# Altium integrated library Wuerth Elektronik SMD High Current Choke.IntLib: 172 symbols (part 2 of 2)
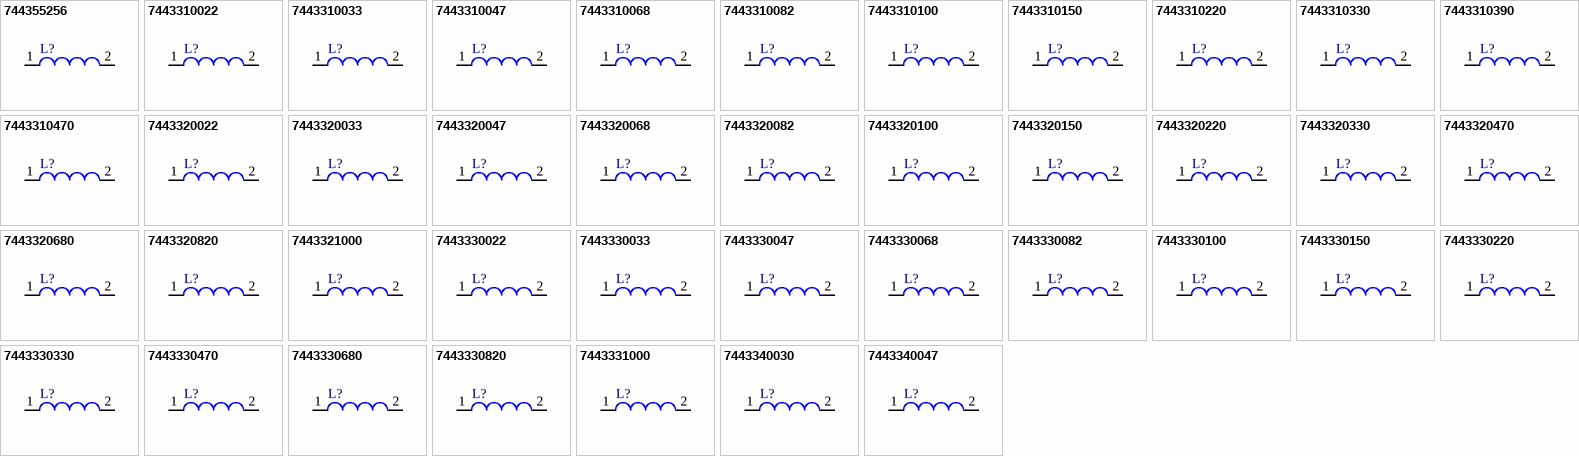
[diagram p5: symbols 744355256 to 7443340047]

## 7443320022
designator L?
SMD High Current Cube Inductor WE-HCC, L=0.22 µH; Inductance: 0.22 µH; DatasheetVersion: ver 2, Nov-2009; PackageVersion: 2009; PackageReference: WE-HCC-1210; PackageDescription: Inductor, 2-Leads, Body 12.1 x 11.4 mm; ComponentLink1Description: Manufacturer URL; ComponentLink1URL: http://www.we-online.com; ComponentLink2Description: Datasheet; ComponentLink2URL: http://www.we-online.de/katalog/media/pdf/7443320022.pdf
footprint WE-HCC-1210 (Inductor, 2-Leads, Body 12.1x11.4x10.0 mm)
pins: 1, 2

## 7443320033
designator L?
SMD High Current Cube Inductor WE-HCC, L=0.33 µH; Inductance: 0.33 µH; DatasheetVersion: ver 2, Nov-2009; PackageVersion: 2009; PackageReference: WE-HCC-1210; PackageDescription: Inductor, 2-Leads, Body 12.1 x 11.4 mm; ComponentLink1Description: Manufacturer URL; ComponentLink1URL: http://www.we-online.com; ComponentLink2Description: Datasheet; ComponentLink2URL: http://www.we-online.de/katalog/media/pdf/7443320033.pdf
footprint WE-HCC-1210 (Inductor, 2-Leads, Body 12.1x11.4x10.0 mm)
pins: 1, 2

## 7443320047
designator L?
SMD High Current Cube Inductor WE-HCC, L=0.47 µH; Inductance: 0.47 µH; DatasheetVersion: ver 2, Nov-2009; PackageVersion: 2009; PackageReference: WE-HCC-1210; PackageDescription: Inductor, 2-Leads, Body 12.1 x 11.4 mm; ComponentLink1Description: Manufacturer URL; ComponentLink1URL: http://www.we-online.com; ComponentLink2Description: Datasheet; ComponentLink2URL: http://www.we-online.de/katalog/media/pdf/7443320047.pdf
footprint WE-HCC-1210 (Inductor, 2-Leads, Body 12.1x11.4x10.0 mm)
pins: 1, 2

## 7443320068
designator L?
SMD High Current Cube Inductor WE-HCC, L=0.68 µH; Inductance: 0.68 µH; DatasheetVersion: ver 2, Nov-2009; PackageVersion: 2009; PackageReference: WE-HCC-1210; PackageDescription: Inductor, 2-Leads, Body 12.1 x 11.4 mm; ComponentLink1Description: Manufacturer URL; ComponentLink1URL: http://www.we-online.com; ComponentLink2Description: Datasheet; ComponentLink2URL: http://www.we-online.de/katalog/media/pdf/7443320068.pdf
footprint WE-HCC-1210 (Inductor, 2-Leads, Body 12.1x11.4x10.0 mm)
pins: 1, 2

## 7443320082
designator L?
SMD High Current Cube Inductor WE-HCC, L=0.82 µH; Inductance: 0.82 µH; DatasheetVersion: ver 2, Nov-2009; PackageVersion: 2009; PackageReference: WE-HCC-1210; PackageDescription: Inductor, 2-Leads, Body 12.1 x 11.4 mm; ComponentLink1Description: Manufacturer URL; ComponentLink1URL: http://www.we-online.com; ComponentLink2Description: Datasheet; ComponentLink2URL: http://www.we-online.de/katalog/media/pdf/7443320082.pdf
footprint WE-HCC-1210 (Inductor, 2-Leads, Body 12.1x11.4x10.0 mm)
pins: 1, 2

## 7443320100
designator L?
SMD High Current Cube Inductor WE-HCC, L=1.00 µH; Inductance: 1.00 µH; DatasheetVersion: ver 2, Nov-2009; PackageVersion: 2009; PackageReference: WE-HCC-1210; PackageDescription: Inductor, 2-Leads, Body 12.1 x 11.4 mm; ComponentLink1Description: Manufacturer URL; ComponentLink1URL: http://www.we-online.com; ComponentLink2Description: Datasheet; ComponentLink2URL: http://www.we-online.de/katalog/media/pdf/7443320100.pdf
footprint WE-HCC-1210 (Inductor, 2-Leads, Body 12.1x11.4x10.0 mm)
pins: 1, 2

## 7443320150
designator L?
SMD High Current Cube Inductor WE-HCC, L=1.50 µH; Inductance: 1.50 µH; DatasheetVersion: ver 2, Nov-2009; PackageVersion: 2009; PackageReference: WE-HCC-1210; PackageDescription: Inductor, 2-Leads, Body 12.1 x 11.4 mm; ComponentLink1Description: Manufacturer URL; ComponentLink1URL: http://www.we-online.com; ComponentLink2Description: Datasheet; ComponentLink2URL: http://www.we-online.de/katalog/media/pdf/7443320150.pdf
footprint WE-HCC-1210 (Inductor, 2-Leads, Body 12.1x11.4x10.0 mm)
pins: 1, 2

## 7443320220
designator L?
SMD High Current Cube Inductor WE-HCC, L=2.20 µH; Inductance: 2.20 µH; DatasheetVersion: ver 2, Nov-2009; PackageVersion: 2009; PackageReference: WE-HCC-1210; PackageDescription: Inductor, 2-Leads, Body 12.1 x 11.4 mm; ComponentLink1Description: Manufacturer URL; ComponentLink1URL: http://www.we-online.com; ComponentLink2Description: Datasheet; ComponentLink2URL: http://www.we-online.de/katalog/media/pdf/7443320220.pdf
footprint WE-HCC-1210 (Inductor, 2-Leads, Body 12.1x11.4x10.0 mm)
pins: 1, 2

## 7443320330
designator L?
SMD High Current Cube Inductor WE-HCC, L=3.30 µH; Inductance: 3.30 µH; DatasheetVersion: ver 2, Nov-2009; PackageVersion: 2009; PackageReference: WE-HCC-1210; PackageDescription: Inductor, 2-Leads, Body 12.1 x 11.4 mm; ComponentLink1Description: Manufacturer URL; ComponentLink1URL: http://www.we-online.com; ComponentLink2Description: Datasheet; ComponentLink2URL: http://www.we-online.de/katalog/media/pdf/7443320330.pdf
footprint WE-HCC-1210 (Inductor, 2-Leads, Body 12.1x11.4x10.0 mm)
pins: 1, 2

## 7443320470
designator L?
SMD High Current Cube Inductor WE-HCC, L=4.70 µH; Inductance: 4.70 µH; DatasheetVersion: ver 2, Nov-2009; PackageVersion: 2009; PackageReference: WE-HCC-1210; PackageDescription: Inductor, 2-Leads, Body 12.1 x 11.4 mm; ComponentLink1Description: Manufacturer URL; ComponentLink1URL: http://www.we-online.com; ComponentLink2Description: Datasheet; ComponentLink2URL: http://www.we-online.de/katalog/media/pdf/7443320470.pdf
footprint WE-HCC-1210 (Inductor, 2-Leads, Body 12.1x11.4x10.0 mm)
pins: 1, 2

## 7443320680
designator L?
SMD High Current Cube Inductor WE-HCC, L=6.80 µH; Inductance: 6.80 µH; DatasheetVersion: ver 2, Nov-2009; PackageVersion: 2009; PackageReference: WE-HCC-1210; PackageDescription: Inductor, 2-Leads, Body 12.1 x 11.4 mm; ComponentLink1Description: Manufacturer URL; ComponentLink1URL: http://www.we-online.com; ComponentLink2Description: Datasheet; ComponentLink2URL: http://www.we-online.de/katalog/media/pdf/7443320680.pdf
footprint WE-HCC-1210 (Inductor, 2-Leads, Body 12.1x11.4x10.0 mm)
pins: 1, 2

## 7443320820
designator L?
SMD High Current Cube Inductor WE-HCC, L=8.20 µH; Inductance: 8.20 µH; DatasheetVersion: ver 2, Nov-2009; PackageVersion: 2009; PackageReference: WE-HCC-1210; PackageDescription: Inductor, 2-Leads, Body 12.1 x 11.4 mm; ComponentLink1Description: Manufacturer URL; ComponentLink1URL: http://www.we-online.com; ComponentLink2Description: Datasheet; ComponentLink2URL: http://www.we-online.de/katalog/media/pdf/7443320820.pdf
footprint WE-HCC-1210 (Inductor, 2-Leads, Body 12.1x11.4x10.0 mm)
pins: 1, 2

## 7443321000
designator L?
SMD High Current Cube Inductor WE-HCC, L=10.0 µH; Inductance: 10.0 µH; DatasheetVersion: ver 2, Nov-2009; PackageVersion: 2009; PackageReference: WE-HCC-1210; PackageDescription: Inductor, 2-Leads, Body 12.1 x 11.4 mm; ComponentLink1Description: Manufacturer URL; ComponentLink1URL: http://www.we-online.com; ComponentLink2Description: Datasheet; ComponentLink2URL: http://www.we-online.de/katalog/media/pdf/7443321000.pdf
footprint WE-HCC-1210 (Inductor, 2-Leads, Body 12.1x11.4x10.0 mm)
pins: 1, 2

## 7443330022
designator L?
SMD High Current Cube Inductor WE-HCC, L=0.22 µH; Inductance: 0.22 µH; DatasheetVersion: ver 2, Nov-2009; PackageVersion: 2009; PackageReference: WE-HCC-1090; PackageDescription: Inductor, 2-Leads, Body 10.9 x 10.0 mm; ComponentLink1Description: Manufacturer URL; ComponentLink1URL: http://www.we-online.com; ComponentLink2Description: Datasheet; ComponentLink2URL: http://www.we-online.de/katalog/media/pdf/7443330022.pdf
footprint WE-HCC-1090 (Inductor, 2-Leads, Body 10.9x10.0x9.7 mm)
pins: 1, 2

## 7443330033
designator L?
SMD High Current Cube Inductor WE-HCC, L=0.33 µH; Inductance: 0.33 µH; DatasheetVersion: ver 2, Nov-2009; PackageVersion: 2009; PackageReference: WE-HCC-1090; PackageDescription: Inductor, 2-Leads, Body 10.9 x 10.0 mm; ComponentLink1Description: Manufacturer URL; ComponentLink1URL: http://www.we-online.com; ComponentLink2Description: Datasheet; ComponentLink2URL: http://www.we-online.de/katalog/media/pdf/7443330033.pdf
footprint WE-HCC-1090 (Inductor, 2-Leads, Body 10.9x10.0x9.7 mm)
pins: 1, 2

## 7443330047
designator L?
SMD High Current Cube Inductor WE-HCC, L=0.47 µH; Inductance: 0.47 µH; DatasheetVersion: ver 2, Nov-2009; PackageVersion: 2009; PackageReference: WE-HCC-1090; PackageDescription: Inductor, 2-Leads, Body 10.9 x 10.0 mm; ComponentLink1Description: Manufacturer URL; ComponentLink1URL: http://www.we-online.com; ComponentLink2Description: Datasheet; ComponentLink2URL: http://www.we-online.de/katalog/media/pdf/7443330047.pdf
footprint WE-HCC-1090 (Inductor, 2-Leads, Body 10.9x10.0x9.7 mm)
pins: 1, 2

## 7443330068
designator L?
SMD High Current Cube Inductor WE-HCC, L=0.68 µH; Inductance: 0.68 µH; DatasheetVersion: ver 2, Nov-2009; PackageVersion: 2009; PackageReference: WE-HCC-1090; PackageDescription: Inductor, 2-Leads, Body 10.9 x 10.0 mm; ComponentLink1Description: Manufacturer URL; ComponentLink1URL: http://www.we-online.com; ComponentLink2Description: Datasheet; ComponentLink2URL: http://www.we-online.de/katalog/media/pdf/7443330068.pdf
footprint WE-HCC-1090 (Inductor, 2-Leads, Body 10.9x10.0x9.7 mm)
pins: 1, 2

## 7443330082
designator L?
SMD High Current Cube Inductor WE-HCC, L=0.82 µH; Inductance: 0.82 µH; DatasheetVersion: ver 2, Nov-2009; PackageVersion: 2009; PackageReference: WE-HCC-1090; PackageDescription: Inductor, 2-Leads, Body 10.9 x 10.0 mm; ComponentLink1Description: Manufacturer URL; ComponentLink1URL: http://www.we-online.com; ComponentLink2Description: Datasheet; ComponentLink2URL: http://www.we-online.de/katalog/media/pdf/7443330082.pdf
footprint WE-HCC-1090 (Inductor, 2-Leads, Body 10.9x10.0x9.7 mm)
pins: 1, 2

## 7443330100
designator L?
SMD High Current Cube Inductor WE-HCC, L=1.00 µH; Inductance: 1.00 µH; DatasheetVersion: ver 2, Nov-2009; PackageVersion: 2009; PackageReference: WE-HCC-1090; PackageDescription: Inductor, 2-Leads, Body 10.9 x 10.0 mm; ComponentLink1Description: Manufacturer URL; ComponentLink1URL: http://www.we-online.com; ComponentLink2Description: Datasheet; ComponentLink2URL: http://www.we-online.de/katalog/media/pdf/7443330100.pdf
footprint WE-HCC-1090 (Inductor, 2-Leads, Body 10.9x10.0x9.7 mm)
pins: 1, 2

## 7443330150
designator L?
SMD High Current Cube Inductor WE-HCC, L=1.50 µH; Inductance: 1.50 µH; DatasheetVersion: ver 2, Nov-2009; PackageVersion: 2009; PackageReference: WE-HCC-1090; PackageDescription: Inductor, 2-Leads, Body 10.9 x 10.0 mm; ComponentLink1Description: Manufacturer URL; ComponentLink1URL: http://www.we-online.com; ComponentLink2Description: Datasheet; ComponentLink2URL: http://www.we-online.de/katalog/media/pdf/7443330150.pdf
footprint WE-HCC-1090 (Inductor, 2-Leads, Body 10.9x10.0x9.7 mm)
pins: 1, 2

## 7443330220
designator L?
SMD High Current Cube Inductor WE-HCC, L=2.20 µH; Inductance: 2.20 µH; DatasheetVersion: ver 2, Nov-2009; PackageVersion: 2009; PackageReference: WE-HCC-1090; PackageDescription: Inductor, 2-Leads, Body 10.9 x 10.0 mm; ComponentLink1Description: Manufacturer URL; ComponentLink1URL: http://www.we-online.com; ComponentLink2Description: Datasheet; ComponentLink2URL: http://www.we-online.de/katalog/media/pdf/7443330220.pdf
footprint WE-HCC-1090 (Inductor, 2-Leads, Body 10.9x10.0x9.7 mm)
pins: 1, 2

## 7443330330
designator L?
SMD High Current Cube Inductor WE-HCC, L=3.30 µH; Inductance: 3.30 µH; DatasheetVersion: ver 2, Nov-2009; PackageVersion: 2009; PackageReference: WE-HCC-1090; PackageDescription: Inductor, 2-Leads, Body 10.9 x 10.0 mm; ComponentLink1Description: Manufacturer URL; ComponentLink1URL: http://www.we-online.com; ComponentLink2Description: Datasheet; ComponentLink2URL: http://www.we-online.de/katalog/media/pdf/7443330330.pdf
footprint WE-HCC-1090 (Inductor, 2-Leads, Body 10.9x10.0x9.7 mm)
pins: 1, 2

## 7443330470
designator L?
SMD High Current Cube Inductor WE-HCC, L=4.70 µH; Inductance: 4.70 µH; DatasheetVersion: ver 2, Nov-2009; PackageVersion: 2009; PackageReference: WE-HCC-1090; PackageDescription: Inductor, 2-Leads, Body 10.9 x 10.0 mm; ComponentLink1Description: Manufacturer URL; ComponentLink1URL: http://www.we-online.com; ComponentLink2Description: Datasheet; ComponentLink2URL: http://www.we-online.de/katalog/media/pdf/7443330470.pdf
footprint WE-HCC-1090 (Inductor, 2-Leads, Body 10.9x10.0x9.7 mm)
pins: 1, 2

## 7443330680
designator L?
SMD High Current Cube Inductor WE-HCC, L=6.80 µH; Inductance: 6.80 µH; DatasheetVersion: ver 2, Nov-2009; PackageVersion: 2009; PackageReference: WE-HCC-1090; PackageDescription: Inductor, 2-Leads, Body 10.9 x 10.0 mm; ComponentLink1Description: Manufacturer URL; ComponentLink1URL: http://www.we-online.com; ComponentLink2Description: Datasheet; ComponentLink2URL: http://www.we-online.de/katalog/media/pdf/7443330680.pdf
footprint WE-HCC-1090 (Inductor, 2-Leads, Body 10.9x10.0x9.7 mm)
pins: 1, 2

## 7443330820
designator L?
SMD High Current Cube Inductor WE-HCC, L=8.20 µH; Inductance: 8.20 µH; DatasheetVersion: ver 2, Nov-2009; PackageVersion: 2009; PackageReference: WE-HCC-1090; PackageDescription: Inductor, 2-Leads, Body 10.9 x 10.0 mm; ComponentLink1Description: Manufacturer URL; ComponentLink1URL: http://www.we-online.com; ComponentLink2Description: Datasheet; ComponentLink2URL: http://www.we-online.de/katalog/media/pdf/7443330820.pdf
footprint WE-HCC-1090 (Inductor, 2-Leads, Body 10.9x10.0x9.7 mm)
pins: 1, 2

## 7443331000
designator L?
SMD High Current Cube Inductor WE-HCC, L=10.0 µH; Inductance: 10.0 µH; DatasheetVersion: ver 2, Nov-2009; PackageVersion: 2009; PackageReference: WE-HCC-1090; PackageDescription: Inductor, 2-Leads, Body 10.9 x 10.0 mm; ComponentLink1Description: Manufacturer URL; ComponentLink1URL: http://www.we-online.com; ComponentLink2Description: Datasheet; ComponentLink2URL: http://www.we-online.de/katalog/media/pdf/7443331000.pdf
footprint WE-HCC-1090 (Inductor, 2-Leads, Body 10.9x10.0x9.7 mm)
pins: 1, 2

## 7443340030
designator L?
SMD High Current Cube Inductor WE-HCC, L=0.30 µH; Inductance: 0.30 µH; DatasheetVersion: ver 2, Nov-2009; PackageVersion: 2009; PackageReference: WE-HCC-8070; PackageDescription: Inductor, 2-Leads, Body 8.4 x 7.9 mm; ComponentLink1Description: Manufacturer URL; ComponentLink1URL: http://www.we-online.com; ComponentLink2Description: Datasheet; ComponentLink2URL: http://www.we-online.de/katalog/media/pdf/7443340030.pdf
footprint WE-HCC-8070 (Inductor, 2-Leads, Body 8.4x7.9x7.5 mm)
pins: 1, 2

## 7443340047
designator L?
SMD High Current Cube Inductor WE-HCC, L=0.47 µH; Inductance: 0.47 µH; DatasheetVersion: ver 2, Nov-2009; PackageVersion: 2009; PackageReference: WE-HCC-8070; PackageDescription: Inductor, 2-Leads, Body 8.4 x 7.9 mm; ComponentLink1Description: Manufacturer URL; ComponentLink1URL: http://www.we-online.com; ComponentLink2Description: Datasheet; ComponentLink2URL: http://www.we-online.de/katalog/media/pdf/7443340047.pdf
footprint WE-HCC-8070 (Inductor, 2-Leads, Body 8.4x7.9x7.5 mm)
pins: 1, 2

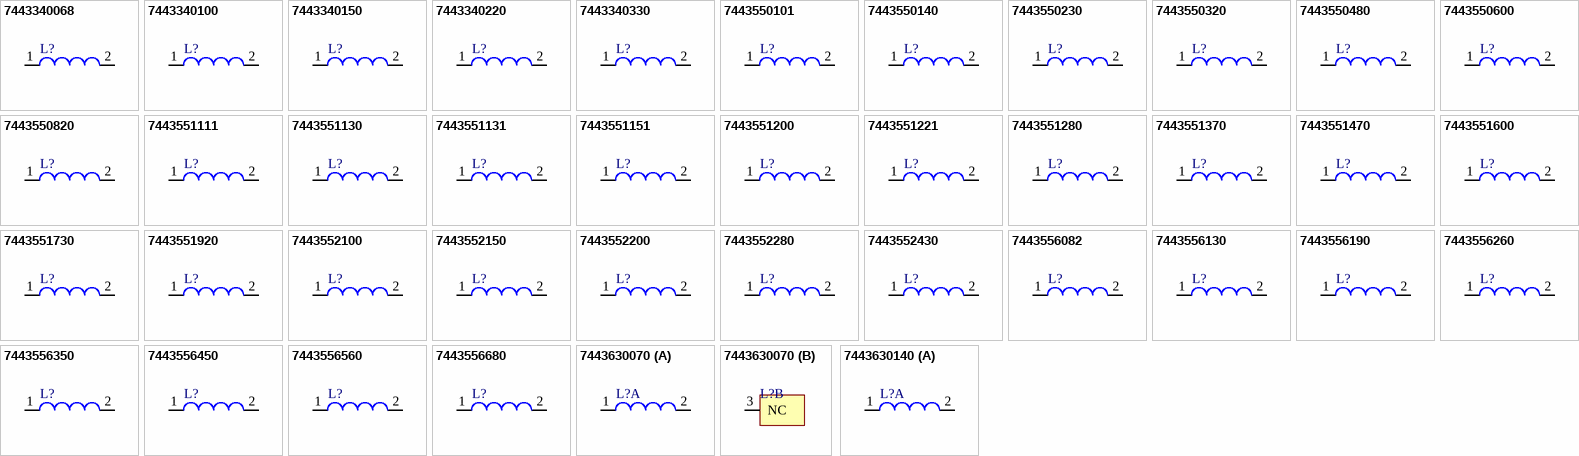
[diagram p3: symbols 7443340068 to 7443630140]

## 7443340068
designator L?
SMD High Current Cube Inductor WE-HCC, L=0.68 µH; Inductance: 0.68 µH; DatasheetVersion: ver 2, Nov-2009; PackageVersion: 2009; PackageReference: WE-HCC-8070; PackageDescription: Inductor, 2-Leads, Body 8.4 x 7.9 mm; ComponentLink1Description: Manufacturer URL; ComponentLink1URL: http://www.we-online.com; ComponentLink2Description: Datasheet; ComponentLink2URL: http://www.we-online.de/katalog/media/pdf/7443340068.pdf
footprint WE-HCC-8070 (Inductor, 2-Leads, Body 8.4x7.9x7.5 mm)
pins: 1, 2

## 7443340100
designator L?
SMD High Current Cube Inductor WE-HCC, L=1.00 µH; Inductance: 1.00 µH; DatasheetVersion: ver 2, Nov-2009; PackageVersion: 2009; PackageReference: WE-HCC-8070; PackageDescription: Inductor, 2-Leads, Body 8.4 x 7.9 mm; ComponentLink1Description: Manufacturer URL; ComponentLink1URL: http://www.we-online.com; ComponentLink2Description: Datasheet; ComponentLink2URL: http://www.we-online.de/katalog/media/pdf/7443340100.pdf
footprint WE-HCC-8070 (Inductor, 2-Leads, Body 8.4x7.9x7.5 mm)
pins: 1, 2

## 7443340150
designator L?
SMD High Current Cube Inductor WE-HCC, L=1.50 µH; Inductance: 1.50 µH; DatasheetVersion: ver 2, Nov-2009; PackageVersion: 2009; PackageReference: WE-HCC-8070; PackageDescription: Inductor, 2-Leads, Body 8.4 x 7.9 mm; ComponentLink1Description: Manufacturer URL; ComponentLink1URL: http://www.we-online.com; ComponentLink2Description: Datasheet; ComponentLink2URL: http://www.we-online.de/katalog/media/pdf/7443340150.pdf
footprint WE-HCC-8070 (Inductor, 2-Leads, Body 8.4x7.9x7.5 mm)
pins: 1, 2

## 7443340220
designator L?
SMD High Current Cube Inductor WE-HCC, L=2.20 µH; Inductance: 2.20 µH; DatasheetVersion: ver 2, Nov-2009; PackageVersion: 2009; PackageReference: WE-HCC-8070; PackageDescription: Inductor, 2-Leads, Body 8.4 x 7.9 mm; ComponentLink1Description: Manufacturer URL; ComponentLink1URL: http://www.we-online.com; ComponentLink2Description: Datasheet; ComponentLink2URL: http://www.we-online.de/katalog/media/pdf/7443340220.pdf
footprint WE-HCC-8070 (Inductor, 2-Leads, Body 8.4x7.9x7.5 mm)
pins: 1, 2

## 7443340330
designator L?
SMD High Current Cube Inductor WE-HCC, L=3.30 µH; Inductance: 3.30 µH; DatasheetVersion: ver 2, Nov-2009; PackageVersion: 2009; PackageReference: WE-HCC-8070; PackageDescription: Inductor, 2-Leads, Body 8.4 x 7.9 mm; ComponentLink1Description: Manufacturer URL; ComponentLink1URL: http://www.we-online.com; ComponentLink2Description: Datasheet; ComponentLink2URL: http://www.we-online.de/katalog/media/pdf/7443340330.pdf
footprint WE-HCC-8070 (Inductor, 2-Leads, Body 8.4x7.9x7.5 mm)
pins: 1, 2

## 7443550101
designator L?
SMD Flat Wire High Current Inductor WE-HCI, L=10.0 µH; Inductance: 10.0 µH; DatasheetVersion: ver 1, Aug-2009; PackageVersion: 2008; PackageReference: WE-HCI-1350; PackageDescription: Inductor, 2-Leads, Body 13.0 x 12.8 mm; ComponentLink1Description: Manufacturer URL; ComponentLink1URL: http://www.we-online.com; ComponentLink2Description: Datasheet; ComponentLink2URL: http://www.we-online.de/katalog/media/pdf/7443550101.pdf
footprint WE-HCI-1350 (Inductor, 2-Leads, Body 13.0x12.8x5.0 mm)
pins: 1, 2

## 7443550140
designator L?
SMD Flat Wire High Current Inductor WE-HCI, L=1.40 µH; Inductance: 1.40 µH; DatasheetVersion: ver 5, Jan-2008; PackageVersion: 2008; PackageReference: WE-HCI-1350; PackageDescription: Inductor, 2-Leads, Body 13.0 x 12.8 mm; ComponentLink1Description: Manufacturer URL; ComponentLink1URL: http://www.we-online.com; ComponentLink2Description: Datasheet; ComponentLink2URL: http://www.we-online.de/katalog/media/pdf/7443550140.pdf
footprint WE-HCI-1350 (Inductor, 2-Leads, Body 13.0x12.8x5.0 mm)
pins: 1, 2

## 7443550230
designator L?
SMD Flat Wire High Current Inductor WE-HCI, L=2.30 µH; Inductance: 2.30 µH; DatasheetVersion: ver 5, Jan-2008; PackageVersion: 2008; PackageReference: WE-HCI-1350; PackageDescription: Inductor, 2-Leads, Body 13.0 x 12.8 mm; ComponentLink1Description: Manufacturer URL; ComponentLink1URL: http://www.we-online.com; ComponentLink2Description: Datasheet; ComponentLink2URL: http://www.we-online.de/katalog/media/pdf/7443550230.pdf
footprint WE-HCI-1350 (Inductor, 2-Leads, Body 13.0x12.8x5.0 mm)
pins: 1, 2

## 7443550320
designator L?
SMD Flat Wire High Current Inductor WE-HCI, L=3.20 µH; Inductance: 3.20 µH; DatasheetVersion: ver 5, Jan-2008; PackageVersion: 2008; PackageReference: WE-HCI-1350; PackageDescription: Inductor, 2-Leads, Body 13.0 x 12.8 mm; ComponentLink1Description: Manufacturer URL; ComponentLink1URL: http://www.we-online.com; ComponentLink2Description: Datasheet; ComponentLink2URL: http://www.we-online.de/katalog/media/pdf/7443550320.pdf
footprint WE-HCI-1350 (Inductor, 2-Leads, Body 13.0x12.8x5.0 mm)
pins: 1, 2

## 7443550480
designator L?
SMD Flat Wire High Current Inductor WE-HCI, L=4.80 µH; Inductance: 4.80 µH; DatasheetVersion: ver 5, Jan-2008; PackageVersion: 2008; PackageReference: WE-HCI-1350; PackageDescription: Inductor, 2-Leads, Body 13.0 x 12.8 mm; ComponentLink1Description: Manufacturer URL; ComponentLink1URL: http://www.we-online.com; ComponentLink2Description: Datasheet; ComponentLink2URL: http://www.we-online.de/katalog/media/pdf/7443550480.pdf
footprint WE-HCI-1350 (Inductor, 2-Leads, Body 13.0x12.8x5.0 mm)
pins: 1, 2

## 7443550600
designator L?
SMD Flat Wire High Current Inductor WE-HCI, L=6.00 µH; Inductance: 6.00 µH; DatasheetVersion: ver 5, Jan-2008; PackageVersion: 2008; PackageReference: WE-HCI-1350; PackageDescription: Inductor, 2-Leads, Body 13.0 x 12.8 mm; ComponentLink1Description: Manufacturer URL; ComponentLink1URL: http://www.we-online.com; ComponentLink2Description: Datasheet; ComponentLink2URL: http://www.we-online.de/katalog/media/pdf/7443550600.pdf
footprint WE-HCI-1350 (Inductor, 2-Leads, Body 13.0x12.8x5.0 mm)
pins: 1, 2

## 7443550820
designator L?
SMD Flat Wire High Current Inductor WE-HCI, L=8.20 µH; Inductance: 8.20 µH; DatasheetVersion: ver 1, Aug-2009; PackageVersion: 2008; PackageReference: WE-HCI-1350; PackageDescription: Inductor, 2-Leads, Body 13.0 x 12.8 mm; ComponentLink1Description: Manufacturer URL; ComponentLink1URL: http://www.we-online.com; ComponentLink2Description: Datasheet; ComponentLink2URL: http://www.we-online.de/katalog/media/pdf/7443550820.pdf
footprint WE-HCI-1350 (Inductor, 2-Leads, Body 13.0x12.8x5.0 mm)
pins: 1, 2

## 7443551111
designator L?
SMD Flat Wire High Current Inductor WE-HCI, L=11.30 µH; DatasheetVersion: ver 5, Dec-2009; PackageVersion: 2008; PackageReference: WE-HCI-1365; PackageDescription: Inductor, 2-Leads, Body 13.2 x 12.8 mm; Inductance: 11.30 µH; ComponentLink1Description: Manufacturer URL; ComponentLink1URL: http://www.we-online.com; ComponentLink2Description: Datasheet; ComponentLink2URL: http://www.we-online.de/katalog/media/pdf/7443551111.pdf
footprint WE-HCI-1365 (Inductor, 2-Leads, Body 13.2x12.8x6.5 mm)
pins: 1, 2

## 7443551130
designator L?
SMD Flat Wire High Current Inductor WE-HCI, L=1.30 µH; Inductance: 1.30 µH; DatasheetVersion: ver 5, Dec-2009; PackageVersion: 2008; PackageReference: WE-HCI-1365; PackageDescription: Inductor, 2-Leads, Body 13.2 x 12.8 mm; ComponentLink1Description: Manufacturer URL; ComponentLink1URL: http://www.we-online.com; ComponentLink2Description: Datasheet; ComponentLink2URL: http://www.we-online.de/katalog/media/pdf/7443551130.pdf
footprint WE-HCI-1365 (Inductor, 2-Leads, Body 13.2x12.8x6.5 mm)
pins: 1, 2

## 7443551131
designator L?
SMD Flat Wire High Current Inductor WE-HCI, L=13.0 µH; Inductance: 13.0 µH; DatasheetVersion: ver 5, Dec-2009; PackageVersion: 2008; PackageReference: WE-HCI-1365; PackageDescription: Inductor, 2-Leads, Body 13.2 x 12.8 mm; ComponentLink1Description: Manufacturer URL; ComponentLink1URL: http://www.we-online.com; ComponentLink2Description: Datasheet; ComponentLink2URL: http://www.we-online.de/katalog/media/pdf/7443551131.pdf
footprint WE-HCI-1365 (Inductor, 2-Leads, Body 13.2x12.8x6.5 mm)
pins: 1, 2

## 7443551151
designator L?
SMD Flat Wire High Current Inductor WE-HCI, L=15.4 µH; Inductance: 15.4 µH; DatasheetVersion: ver 4, Jan-2008; PackageVersion: 2008; PackageReference: WE-HCI-1365; PackageDescription: Inductor, 2-Leads, Body 13.2 x 12.8 mm; ComponentLink1Description: Manufacturer URL; ComponentLink1URL: http://www.we-online.com; ComponentLink2Description: Datasheet; ComponentLink2URL: http://www.we-online.de/katalog/media/pdf/7443551151.pdf
footprint WE-HCI-1365 (Inductor, 2-Leads, Body 13.2x12.8x6.5 mm)
pins: 1, 2

## 7443551200
designator L?
SMD Flat Wire High Current Inductor WE-HCI, L=2.00 µH; Inductance: 2.00 µH; DatasheetVersion: ver 4, Jan-2008; PackageVersion: 2008; PackageReference: WE-HCI-1365; PackageDescription: Inductor, 2-Leads, Body 13.2 x 12.8 mm; ComponentLink1Description: Manufacturer URL; ComponentLink1URL: http://www.we-online.com; ComponentLink2Description: Datasheet; ComponentLink2URL: http://www.we-online.de/katalog/media/pdf/7443551200.pdf
footprint WE-HCI-1365 (Inductor, 2-Leads, Body 13.2x12.8x6.5 mm)
pins: 1, 2

## 7443551221
designator L?
SMD Flat Wire High Current Inductor WE-HCI, L=22.0 µH; Inductance: 22.0 µH; DatasheetVersion: ver 1, Aug-2009; PackageVersion: 2008; PackageReference: WE-HCI-1365; PackageDescription: Inductor, 2-Leads, Body 13.2 x 12.8 mm; ComponentLink1Description: Manufacturer URL; ComponentLink1URL: http://www.we-online.com; ComponentLink2Description: Datasheet; ComponentLink2URL: http://www.we-online.de/katalog/media/pdf/7443551221.pdf
footprint WE-HCI-1365 (Inductor, 2-Leads, Body 13.2x12.8x6.5 mm)
pins: 1, 2

## 7443551280
designator L?
SMD Flat Wire High Current Inductor WE-HCI, L=2.80 µH; Inductance: 2.80 µH; DatasheetVersion: ver 4, Jan-2008; PackageVersion: 2008; PackageReference: WE-HCI-1365; PackageDescription: Inductor, 2-Leads, Body 13.2 x 12.8 mm; ComponentLink1Description: Manufacturer URL; ComponentLink1URL: http://www.we-online.com; ComponentLink2Description: Datasheet; ComponentLink2URL: http://www.we-online.de/katalog/media/pdf/7443551280.pdf
footprint WE-HCI-1365 (Inductor, 2-Leads, Body 13.2x12.8x6.5 mm)
pins: 1, 2

## 7443551370
designator L?
SMD Flat Wire High Current Inductor WE-HCI, L=3.70 µH; Inductance: 3.70 µH; DatasheetVersion: ver 4, Jan-2008; PackageVersion: 2008; PackageReference: WE-HCI-1365; PackageDescription: Inductor, 2-Leads, Body 13.2 x 12.8 mm; ComponentLink1Description: Manufacturer URL; ComponentLink1URL: http://www.we-online.com; ComponentLink2Description: Datasheet; ComponentLink2URL: http://www.we-online.de/katalog/media/pdf/7443551370.pdf
footprint WE-HCI-1365 (Inductor, 2-Leads, Body 13.2x12.8x6.5 mm)
pins: 1, 2

## 7443551470
designator L?
SMD Flat Wire High Current Inductor WE-HCI, L=4.70 µH; Inductance: 4.70 µH; DatasheetVersion: ver 4, Jan-2008; PackageVersion: 2008; PackageReference: WE-HCI-1365; PackageDescription: Inductor, 2-Leads, Body 13.2 x 12.8 mm; ComponentLink1Description: Manufacturer URL; ComponentLink1URL: http://www.we-online.com; ComponentLink2Description: Datasheet; ComponentLink2URL: http://www.we-online.de/katalog/media/pdf/7443551470.pdf
footprint WE-HCI-1365 (Inductor, 2-Leads, Body 13.2x12.8x6.5 mm)
pins: 1, 2

## 7443551600
designator L?
SMD Flat Wire High Current Inductor WE-HCI, L=6.00 µH; Inductance: 6.00 µH; DatasheetVersion: ver 4, Jan-2008; PackageVersion: 2008; PackageReference: WE-HCI-1365; PackageDescription: Inductor, 2-Leads, Body 13.2 x 12.8 mm; ComponentLink1Description: Manufacturer URL; ComponentLink1URL: http://www.we-online.com; ComponentLink2Description: Datasheet; ComponentLink2URL: http://www.we-online.de/katalog/media/pdf/7443551600.pdf
footprint WE-HCI-1365 (Inductor, 2-Leads, Body 13.2x12.8x6.5 mm)
pins: 1, 2

## 7443551730
designator L?
SMD Flat Wire High Current Inductor WE-HCI, L=7.30 µH; Inductance: 7.30 µH; DatasheetVersion: ver 4, Jan-2008; PackageVersion: 2008; PackageReference: WE-HCI-1365; PackageDescription: Inductor, 2-Leads, Body 13.2 x 12.8 mm; ComponentLink1Description: Manufacturer URL; ComponentLink1URL: http://www.we-online.com; ComponentLink2Description: Datasheet; ComponentLink2URL: http://www.we-online.de/katalog/media/pdf/7443551730.pdf
footprint WE-HCI-1365 (Inductor, 2-Leads, Body 13.2x12.8x6.5 mm)
pins: 1, 2

## 7443551920
designator L?
SMD Flat Wire High Current Inductor WE-HCI, L=9.20 µH; Inductance: 9.20 µH; DatasheetVersion: ver 4, Jan-2008; PackageVersion: 2008; PackageReference: WE-HCI-1365; PackageDescription: Inductor, 2-Leads, Body 13.2 x 12.8 mm; ComponentLink1Description: Manufacturer URL; ComponentLink1URL: http://www.we-online.com; ComponentLink2Description: Datasheet; ComponentLink2URL: http://www.we-online.de/katalog/media/pdf/7443551920.pdf
footprint WE-HCI-1365 (Inductor, 2-Leads, Body 13.2x12.8x6.5 mm)
pins: 1, 2

## 7443552100
designator L?
SMD Flat Wire High Current Inductor WE-HCI, L=1.00 µH; Inductance: 1.00 µH; DatasheetVersion: ver 7, Jan-2008; PackageVersion: 2008; PackageReference: WE-HCI-1040; PackageDescription: Inductor, 2-Leads, Body 10.5 x 10.2 mm; ComponentLink1Description: Manufacturer URL; ComponentLink1URL: http://www.we-online.com; ComponentLink2Description: Datasheet; ComponentLink2URL: http://www.we-online.de/katalog/media/pdf/7443552100.pdf
footprint WE-HCI-1040 (Inductor, 2-Leads, Body 10.5x10.2x4.2 mm)
pins: 1, 2

## 7443552150
designator L?
SMD Flat Wire High Current Inductor WE-HCI, L=1.50 µH; Inductance: 1.50 µH; DatasheetVersion: ver 7, Jan-2008; PackageVersion: 2008; PackageReference: WE-HCI-1040; PackageDescription: Inductor, 2-Leads, Body 10.5 x 10.2 mm; ComponentLink1Description: Manufacturer URL; ComponentLink1URL: http://www.we-online.com; ComponentLink2Description: Datasheet; ComponentLink2URL: http://www.we-online.de/katalog/media/pdf/7443552150.pdf
footprint WE-HCI-1040 (Inductor, 2-Leads, Body 10.5x10.2x4.2 mm)
pins: 1, 2

## 7443552200
designator L?
SMD Flat Wire High Current Inductor WE-HCI, L=2.00 µH; Inductance: 2.00 µH; DatasheetVersion: ver 7, Jan-2008; PackageVersion: 2008; PackageReference: WE-HCI-1040; PackageDescription: Inductor, 2-Leads, Body 10.5 x 10.2 mm; ComponentLink1Description: Manufacturer URL; ComponentLink1URL: http://www.we-online.com; ComponentLink2Description: Datasheet; ComponentLink2URL: http://www.we-online.de/katalog/media/pdf/7443552200.pdf
footprint WE-HCI-1040 (Inductor, 2-Leads, Body 10.5x10.2x4.2 mm)
pins: 1, 2

## 7443552280
designator L?
SMD Flat Wire High Current Inductor WE-HCI, L=2.80 µH; Inductance: 2.80 µH; DatasheetVersion: ver 7, Jan-2008; PackageVersion: 2008; PackageReference: WE-HCI-1040; PackageDescription: Inductor, 2-Leads, Body 10.5 x 10.2 mm; ComponentLink1Description: Manufacturer URL; ComponentLink1URL: http://www.we-online.com; ComponentLink2Description: Datasheet; ComponentLink2URL: http://www.we-online.de/katalog/media/pdf/7443552280.pdf
footprint WE-HCI-1040 (Inductor, 2-Leads, Body 10.5x10.2x4.2 mm)
pins: 1, 2

## 7443552430
designator L?
SMD Flat Wire High Current Inductor WE-HCI, L=4.30 µH; Inductance: 4.30 µH; DatasheetVersion: ver 7, Jan-2008; PackageVersion: 2008; PackageReference: WE-HCI-1040; PackageDescription: Inductor, 2-Leads, Body 10.5 x 10.2 mm; ComponentLink1Description: Manufacturer URL; ComponentLink1URL: http://www.we-online.com; ComponentLink2Description: Datasheet; ComponentLink2URL: http://www.we-online.de/katalog/media/pdf/7443552430.pdf
footprint WE-HCI-1040 (Inductor, 2-Leads, Body 10.5x10.2x4.2 mm)
pins: 1, 2

## 7443556082
designator L?
SMD Flat Wire High Current Inductor WE-HCI, L=0.82 µH; Inductance: 0.82 µH; DatasheetVersion: ver 3, Nov-2009; PackageVersion: 2009; PackageReference: WE-HCI-1890; PackageDescription: Inductor, 2-Leads, Body 18.3 x 18.2 mm; ComponentLink1Description: Manufacturer URL; ComponentLink1URL: http://www.we-online.com; ComponentLink2Description: Datasheet; ComponentLink2URL: http://www.we-online.de/katalog/media/pdf/7443556082.pdf
footprint WE-HCI-1890 (Inductor, 2-Leads, Body 18.3x18.2x9.2 mm)
pins: 1, 2

## 7443556130
designator L?
SMD Flat Wire High Current Inductor WE-HCI, L=1.30 µH; Inductance: 1.30 µH; DatasheetVersion: ver 3, Nov-2009; PackageVersion: 2009; PackageReference: WE-HCI-1890; PackageDescription: Inductor, 2-Leads, Body 18.3 x 18.2 mm; ComponentLink1Description: Manufacturer URL; ComponentLink1URL: http://www.we-online.com; ComponentLink2Description: Datasheet; ComponentLink2URL: http://www.we-online.de/katalog/media/pdf/7443556130.pdf
footprint WE-HCI-1890 (Inductor, 2-Leads, Body 18.3x18.2x9.2 mm)
pins: 1, 2

## 7443556190
designator L?
SMD Flat Wire High Current Inductor WE-HCI, L=1.90 µH; Inductance: 1.90 µH; DatasheetVersion: ver 3, Nov-2009; PackageVersion: 2009; PackageReference: WE-HCI-1890; PackageDescription: Inductor, 2-Leads, Body 18.3 x 18.2 mm; ComponentLink1Description: Manufacturer URL; ComponentLink1URL: http://www.we-online.com; ComponentLink2Description: Datasheet; ComponentLink2URL: http://www.we-online.de/katalog/media/pdf/7443556190.pdf
footprint WE-HCI-1890 (Inductor, 2-Leads, Body 18.3x18.2x9.2 mm)
pins: 1, 2

## 7443556260
designator L?
SMD Flat Wire High Current Inductor WE-HCI, L=2.60 µH; Inductance: 2.60 µH; DatasheetVersion: ver 3, Nov-2009; PackageVersion: 2009; PackageReference: WE-HCI-1890; PackageDescription: Inductor, 2-Leads, Body 18.3 x 18.2 mm; ComponentLink1Description: Manufacturer URL; ComponentLink1URL: http://www.we-online.com; ComponentLink2Description: Datasheet; ComponentLink2URL: http://www.we-online.de/katalog/media/pdf/7443556260.pdf
footprint WE-HCI-1890 (Inductor, 2-Leads, Body 18.3x18.2x9.2 mm)
pins: 1, 2

## 7443556350
designator L?
SMD Flat Wire High Current Inductor WE-HCI, L=3.50 µH; Inductance: 3.50 µH; DatasheetVersion: ver 3, Nov-2009; PackageVersion: 2009; PackageReference: WE-HCI-1890; PackageDescription: Inductor, 2-Leads, Body 18.3 x 18.2 mm; ComponentLink1Description: Manufacturer URL; ComponentLink1URL: http://www.we-online.com; ComponentLink2Description: Datasheet; ComponentLink2URL: http://www.we-online.de/katalog/media/pdf/7443556350.pdf
footprint WE-HCI-1890 (Inductor, 2-Leads, Body 18.3x18.2x9.2 mm)
pins: 1, 2

## 7443556450
designator L?
SMD Flat Wire High Current Inductor WE-HCI, L=4.50 µH; Inductance: 4.50 µH; DatasheetVersion: ver 3, Nov-2009; PackageVersion: 2009; PackageReference: WE-HCI-1890; PackageDescription: Inductor, 2-Leads, Body 18.3 x 18.2 mm; ComponentLink1Description: Manufacturer URL; ComponentLink1URL: http://www.we-online.com; ComponentLink2Description: Datasheet; ComponentLink2URL: http://www.we-online.de/katalog/media/pdf/7443556450.pdf
footprint WE-HCI-1890 (Inductor, 2-Leads, Body 18.3x18.2x9.2 mm)
pins: 1, 2

## 7443556560
designator L?
SMD Flat Wire High Current Inductor WE-HCI, L=5.60 µH; Inductance: 5.60 µH; DatasheetVersion: ver 3, Nov-2009; PackageVersion: 2009; PackageReference: WE-HCI-1890; PackageDescription: Inductor, 2-Leads, Body 18.3 x 18.2 mm; ComponentLink1Description: Manufacturer URL; ComponentLink1URL: http://www.we-online.com; ComponentLink2Description: Datasheet; ComponentLink2URL: http://www.we-online.de/katalog/media/pdf/7443556560.pdf
footprint WE-HCI-1890 (Inductor, 2-Leads, Body 18.3x18.2x9.2 mm)
pins: 1, 2

## 7443556680
designator L?
SMD Flat Wire High Current Inductor WE-HCI, L=6.80 µH; Inductance: 6.80 µH; DatasheetVersion: ver 3, Nov-2009; PackageVersion: 2009; PackageReference: WE-HCI-1890; PackageDescription: Inductor, 2-Leads, Body 18.3 x 18.2 mm; ComponentLink1Description: Manufacturer URL; ComponentLink1URL: http://www.we-online.com; ComponentLink2Description: Datasheet; ComponentLink2URL: http://www.we-online.de/katalog/media/pdf/7443556680.pdf
footprint WE-HCI-1890 (Inductor, 2-Leads, Body 18.3x18.2x9.2 mm)
pins: 1, 2

## 7443630070
designator L?
SMD High Current Inductor WE-HCF, L=0.70 µH; Inductance: 0.70 µH; DatasheetVersion: ver 1, Jul-2009; PackageVersion: 2009; PackageReference: WE-HCF-2013; PackageDescription: SMD Inductor, 3-Leads, Body 21.5 x 21.0 mm; ComponentLink1Description: Manufacturer URL; ComponentLink1URL: http://www.we-online.com; ComponentLink2Description: Datasheet; ComponentLink2URL: http://www.we-online.de/katalog/media/pdf/7443630070.pdf
footprint WE-HCF-2013 (SMD Inductor, 3-Leads, Body 21.5x21.0x14.0 mm)
part A pins: 1, 2
part B pins: 3 NC

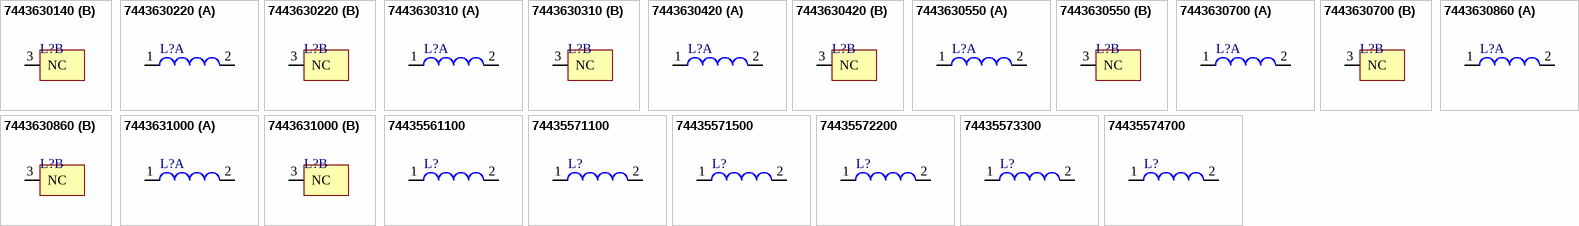
[diagram p4: symbols 7443630140 to 74435574700]

## 7443630140
designator L?
SMD High Current Inductor WE-HCF, L=1.40 µH; Inductance: 1.40 µH; DatasheetVersion: ver 1, Jul-2009; PackageVersion: 2009; PackageReference: WE-HCF-2013; PackageDescription: SMD Inductor, 3-Leads, Body 21.5 x 21.0 mm; ComponentLink1Description: Manufacturer URL; ComponentLink1URL: http://www.we-online.com; ComponentLink2Description: Datasheet; ComponentLink2URL: http://www.we-online.de/katalog/media/pdf/7443630140.pdf
footprint WE-HCF-2013 (SMD Inductor, 3-Leads, Body 21.5x21.0x14.0 mm)
part A pins: 1, 2
part B pins: 3 NC

## 7443630220
designator L?
SMD High Current Inductor WE-HCF, L=2.20 µH; Inductance: 2.20 µH; DatasheetVersion: ver 1, Jul-2009; PackageVersion: 2009; PackageReference: WE-HCF-2013; PackageDescription: SMD Inductor, 3-Leads, Body 21.5 x 21.0 mm; ComponentLink1Description: Manufacturer URL; ComponentLink1URL: http://www.we-online.com; ComponentLink2Description: Datasheet; ComponentLink2URL: http://www.we-online.de/katalog/media/pdf/7443630220.pdf
footprint WE-HCF-2013 (SMD Inductor, 3-Leads, Body 21.5x21.0x14.0 mm)
part A pins: 1, 2
part B pins: 3 NC

## 7443630310
designator L?
SMD High Current Inductor WE-HCF, L=3.10 µH; Inductance: 3.10 µH; DatasheetVersion: ver 1, Jul-2009; PackageVersion: 2009; PackageReference: WE-HCF-2013; PackageDescription: SMD Inductor, 3-Leads, Body 21.5 x 21.0 mm; ComponentLink1Description: Manufacturer URL; ComponentLink1URL: http://www.we-online.com; ComponentLink2Description: Datasheet; ComponentLink2URL: http://www.we-online.de/katalog/media/pdf/7443630310.pdf
footprint WE-HCF-2013 (SMD Inductor, 3-Leads, Body 21.5x21.0x14.0 mm)
part A pins: 1, 2
part B pins: 3 NC

## 7443630420
designator L?
SMD High Current Inductor WE-HCF, L=4.20 µH; Inductance: 4.20 µH; DatasheetVersion: ver 1, Jul-2009; PackageVersion: 2009; PackageReference: WE-HCF-2013; PackageDescription: SMD Inductor, 3-Leads, Body 21.5 x 21.0 mm; ComponentLink1Description: Manufacturer URL; ComponentLink1URL: http://www.we-online.com; ComponentLink2Description: Datasheet; ComponentLink2URL: http://www.we-online.de/katalog/media/pdf/7443630420.pdf
footprint WE-HCF-2013 (SMD Inductor, 3-Leads, Body 21.5x21.0x14.0 mm)
part A pins: 1, 2
part B pins: 3 NC

## 7443630550
designator L?
SMD High Current Inductor WE-HCF, L=5.50 µH; Inductance: 5.50 µH; DatasheetVersion: ver 1, Jul-2009; PackageVersion: 2009; PackageReference: WE-HCF-2013; PackageDescription: SMD Inductor, 3-Leads, Body 21.5 x 21.0 mm; ComponentLink1Description: Manufacturer URL; ComponentLink1URL: http://www.we-online.com; ComponentLink2Description: Datasheet; ComponentLink2URL: http://www.we-online.de/katalog/media/pdf/7443630550.pdf
footprint WE-HCF-2013 (SMD Inductor, 3-Leads, Body 21.5x21.0x14.0 mm)
part A pins: 1, 2
part B pins: 3 NC

## 7443630700
designator L?
SMD High Current Inductor WE-HCF, L=7.00 µH; Inductance: 7.00 µH; DatasheetVersion: ver 1, Jul-2009; PackageVersion: 2009; PackageReference: WE-HCF-2013; PackageDescription: SMD Inductor, 3-Leads, Body 21.5 x 21.0 mm; ComponentLink1Description: Manufacturer URL; ComponentLink1URL: http://www.we-online.com; ComponentLink2Description: Datasheet; ComponentLink2URL: http://www.we-online.de/katalog/media/pdf/7443630700.pdf
footprint WE-HCF-2013 (SMD Inductor, 3-Leads, Body 21.5x21.0x14.0 mm)
part A pins: 1, 2
part B pins: 3 NC

## 7443630860
designator L?
SMD High Current Inductor WE-HCF, L=8.60 µH; Inductance: 8.60 µH; DatasheetVersion: ver 1, Jul-2009; PackageVersion: 2009; PackageReference: WE-HCF-2013; PackageDescription: SMD Inductor, 3-Leads, Body 21.5 x 21.0 mm; ComponentLink1Description: Manufacturer URL; ComponentLink1URL: http://www.we-online.com; ComponentLink2Description: Datasheet; ComponentLink2URL: http://www.we-online.de/katalog/media/pdf/7443630860.pdf
footprint WE-HCF-2013 (SMD Inductor, 3-Leads, Body 21.5x21.0x14.0 mm)
part A pins: 1, 2
part B pins: 3 NC

## 7443631000
designator L?
SMD High Current Inductor WE-HCF, L=10.0 µH; Inductance: 10.0 µH; DatasheetVersion: ver 1, Jul-2009; PackageVersion: 2009; PackageReference: WE-HCF-2013; PackageDescription: SMD Inductor, 3-Leads, Body 21.5 x 21.0 mm; ComponentLink1Description: Manufacturer URL; ComponentLink1URL: http://www.we-online.com; ComponentLink2Description: Datasheet; ComponentLink2URL: http://www.we-online.de/katalog/media/pdf/7443631000.pdf
footprint WE-HCF-2013 (SMD Inductor, 3-Leads, Body 21.5x21.0x14.0 mm)
part A pins: 1, 2
part B pins: 3 NC

## 74435561100
designator L?
SMD Flat Wire High Current Inductor WE-HCI, L=10.0 µH; Inductance: 10.0 µH; DatasheetVersion: ver 2, Nov-2009; PackageVersion: 2009; PackageReference: WE-HCI-1890; PackageDescription: Inductor, 2-Leads, Body 18.3 x 18.2 mm; ComponentLink1Description: Manufacturer URL; ComponentLink1URL: http://www.we-online.com; ComponentLink2Description: Datasheet; ComponentLink2URL: http://www.we-online.de/katalog/media/pdf/74435561100.pdf
footprint WE-HCI-1890 (Inductor, 2-Leads, Body 18.3x18.2x9.2 mm)
pins: 1, 2

## 74435571100
designator L?
SMD Flat Wire High Current Inductor WE-HCI, L=10.0 µH; Inductance: 10.0 µH; DatasheetVersion: ver 2, Nov-2009; PackageVersion: 2009; PackageReference: WE-HCI-1890; PackageDescription: Inductor, 2-Leads, Body 18.3 x 18.2 mm; ComponentLink1Description: Manufacturer URL; ComponentLink1URL: http://www.we-online.com; ComponentLink2Description: Datasheet; ComponentLink2URL: http://www.we-online.de/katalog/media/pdf/74435571100.pdf
footprint WE-HCI-1890 (Inductor, 2-Leads, Body 18.3x18.2x9.2 mm)
pins: 1, 2

## 74435571500
designator L?
SMD Flat Wire High Current Inductor WE-HCI, L=15.0 µH; Inductance: 15.0 µH; DatasheetVersion: ver 2, Nov-2009; PackageVersion: 2009; PackageReference: WE-HCI-1890; PackageDescription: Inductor, 2-Leads, Body 18.3 x 18.2 mm; ComponentLink1Description: Manufacturer URL; ComponentLink1URL: http://www.we-online.com; ComponentLink2Description: Datasheet; ComponentLink2URL: http://www.we-online.de/katalog/media/pdf/74435571500.pdf
footprint WE-HCI-1890 (Inductor, 2-Leads, Body 18.3x18.2x9.2 mm)
pins: 1, 2

## 74435572200
designator L?
SMD Flat Wire High Current Inductor WE-HCI, L=22.0 µH; Inductance: 22.0 µH; DatasheetVersion: ver 2, Nov-2009; PackageVersion: 2009; PackageReference: WE-HCI-1890; PackageDescription: Inductor, 2-Leads, Body 18.3 x 18.2 mm; ComponentLink1Description: Manufacturer URL; ComponentLink1URL: http://www.we-online.com; ComponentLink2Description: Datasheet; ComponentLink2URL: http://www.we-online.de/katalog/media/pdf/74435572200.pdf
footprint WE-HCI-1890 (Inductor, 2-Leads, Body 18.3x18.2x9.2 mm)
pins: 1, 2

## 74435573300
designator L?
SMD Flat Wire High Current Inductor WE-HCI, L=33.0 µH; Inductance: 33.0 µH; DatasheetVersion: ver 2, Nov-2009; PackageVersion: 2009; PackageReference: WE-HCI-1890; PackageDescription: Inductor, 2-Leads, Body 18.3 x 18.2 mm; ComponentLink1Description: Manufacturer URL; ComponentLink1URL: http://www.we-online.com; ComponentLink2Description: Datasheet; ComponentLink2URL: http://www.we-online.de/katalog/media/pdf/74435573300.pdf
footprint WE-HCI-1890 (Inductor, 2-Leads, Body 18.3x18.2x9.2 mm)
pins: 1, 2

## 74435574700
designator L?
SMD Flat Wire High Current Inductor WE-HCI, L=47.0 µH; Inductance: 47.0 µH; DatasheetVersion: ver 2, Nov-2009; PackageVersion: 2009; PackageReference: WE-HCI-1890; PackageDescription: Inductor, 2-Leads, Body 18.3 x 18.2 mm; ComponentLink1Description: Manufacturer URL; ComponentLink1URL: http://www.we-online.com; ComponentLink2Description: Datasheet; ComponentLink2URL: http://www.we-online.de/katalog/media/pdf/74435574700.pdf
footprint WE-HCI-1890 (Inductor, 2-Leads, Body 18.3x18.2x9.2 mm)
pins: 1, 2